# Altium schematic symbol library 1.5VREF2030QDDCRQ1.SchLib: 1 symbol
Pins are listed as number, name and electrical type; pins without a type are passive.

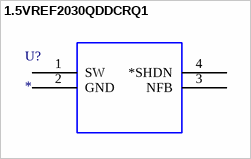
[diagram p0: symbol 1.5VREF2030QDDCRQ1]

## 1.5VREF2030QDDCRQ1
designator U?
MP: LT1611CS5#TRM; MF: Linear Technology; Package: SOT-23-5 Linear Technology; Availability: Unavailable; Value: *; Arrow_Electronics-Purchase-URL: https://snapeda.com/shop?store=Arrow+Electronics&id=600654; Price: None; SnapEDA_Link: https://www.snapeda.com/parts/LT1611CS5%23TRM/Analog%20Devices/view-part/600654/?ref=snap
footprint SOT-23-5_MC_MCH-L
pins: 1 SW, 2 GND (power), 3 NFB, 4 *SHDN